# Altium schematic symbol library VBlib_Fuses.SchLib: 3 symbols
Pins are listed as number, name and electrical type; pins without a type are passive.

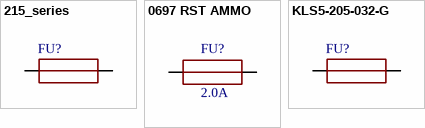
[diagram p0: symbols 215_series to KLS5-205-032-G]

## 215_series
designator FU?, comment 0215 012. M X E P  (value not drawn)
Axial Lead Fuse, 12А, 5x20; Value: 3.15A
footprint Fuse 5x20 (Thru-Hole; 2 Leads)
pins: 1, 2

## 0697 RST AMMO
designator FU?, comment value 2.0A  (hidden comment: 0697-2000-02)
Bel Fuse RST 2 Fuse 2A Slow Blow
footprint Bel Fuse RST
pins: 1, 2

## KLS5-205-032-G
designator FU?  (value not drawn)
Fuse, 3.15А; Value: 3.15A
footprint KLS5_Vertical
footprint KLS5_SMD
pins: 1, 2